# EAGLE library part ESP32-DOITV1 (library HeRo)
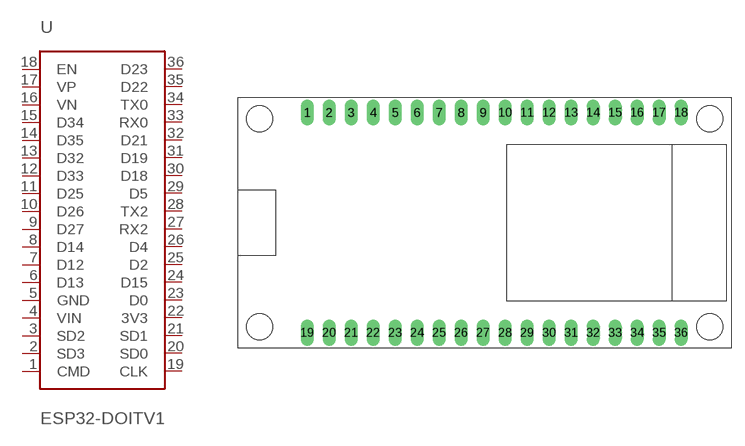
[diagram p3: symbol with the pads of ESP32-DOITV1; footprint ESP32-DOITV1]

Designator prefix -

## ESP32-DOITV1  [ESP32-DOITV1]
1  CMD
2  SD3
3  SD2
4  VIN
5  GND
6  D13
7  D12
8  D14
9  D27
10  D26
11  D25
12  D33
13  D32
14  D35
15  D34
16  VN
17  VP
18  EN
19  CLK
20  SD0
21  SD1
22  3V3
23  D0
24  D15
25  D2
26  D4
27  RX2
28  TX2
29  D5
30  D18
31  D19
32  D21
33  RX0
34  TX0
35  D22
36  D23

## Footprint ESP32-DOITV1 (pad centres in mm)
PIN HEADER
drill 1.016 long: 1 -20.5,12.7; 2 -17.96,12.7; 3 -15.42,12.7; 4 -12.88,12.7; 5 -10.34,12.7; 6 -7.8,12.7; 7 -5.26,12.7; 8 -2.72,12.7; 9 -0.18,12.7; 10 2.36,12.7; 11 4.9,12.7; 12 7.44,12.7; 13 9.98,12.7; 14 12.52,12.7; 15 15.06,12.7; 16 17.6,12.7; 17 20.14,12.7; 18 22.68,12.7; 19 -20.5,-12.7; 20 -17.96,-12.7; 21 -15.42,-12.7; 22 -12.88,-12.7; 23 -10.34,-12.7; 24 -7.8,-12.7; 25 -5.26,-12.7; 26 -2.72,-12.7; 27 -0.18,-12.7; 28 2.36,-12.7; 29 4.9,-12.7; 30 7.44,-12.7; 31 9.98,-12.7; 32 12.52,-12.7; 33 15.06,-12.7; 34 17.6,-12.7; 35 20.14,-12.7; 36 22.68,-12.7
hole 3 at -26,12
hole 3 at -26,-12
hole 3 at 26,-12
hole 3 at 26,12